# Altium footprint library SP1ML-868.PcbLib: 2 footprints
Each footprint in its own frame and in the unit in brackets; x right, y up, seen from the top. Pads: shape width x height; smd on the part's side, far side on the other; paste and mask are expansions set on the pad; w line width, h text height; cw(c..) or ccw(c..) is an arc to the next point about the centre after c.
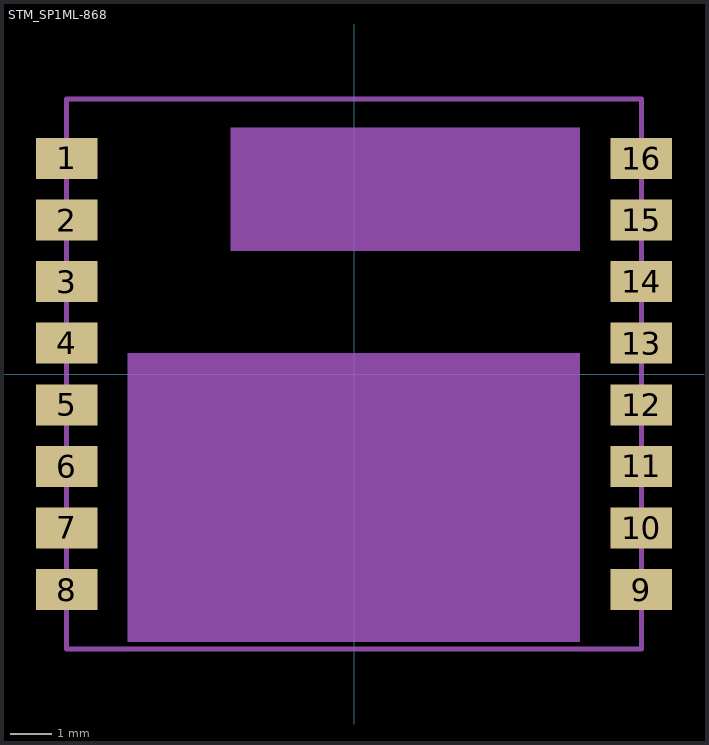
[diagram p0: the footprints below, top view; thin cyan lines are the x and y axes]

## PCBComponent_1 [mm]

## STM_SP1ML-868 [mm]
pads (16):
  rect 1.5x1 smd: 1(-7,5.25) 2(-7,3.75) 3(-7,2.25) 4(-7,0.75) 5(-7,-0.75) 6(-7,-2.25) 7(-7,-3.75) 8(-7,-5.25) 9(7,-5.25) 10(7,-3.75) 11(7,-2.25) 12(7,-0.75) 13(7,0.75) 14(7,2.25) 15(7,3.75) 16(7,5.25)
Mechanical 1:
  region: -3.006,6 5.5,6 5.5,3.006 -3.006,3.006
  region: -5.514,0.5 5.5,0.5 5.5,-6.517 -5.514,-6.517
  lines w0.127: -7,-6.7 -7,6.7 7,6.7 7,-6.7 -7,-6.7